# Altium schematic symbol library Rollmech_Altium.SchLib: 64 symbols
Pins are listed as number, name and electrical type; pins without a type are passive.

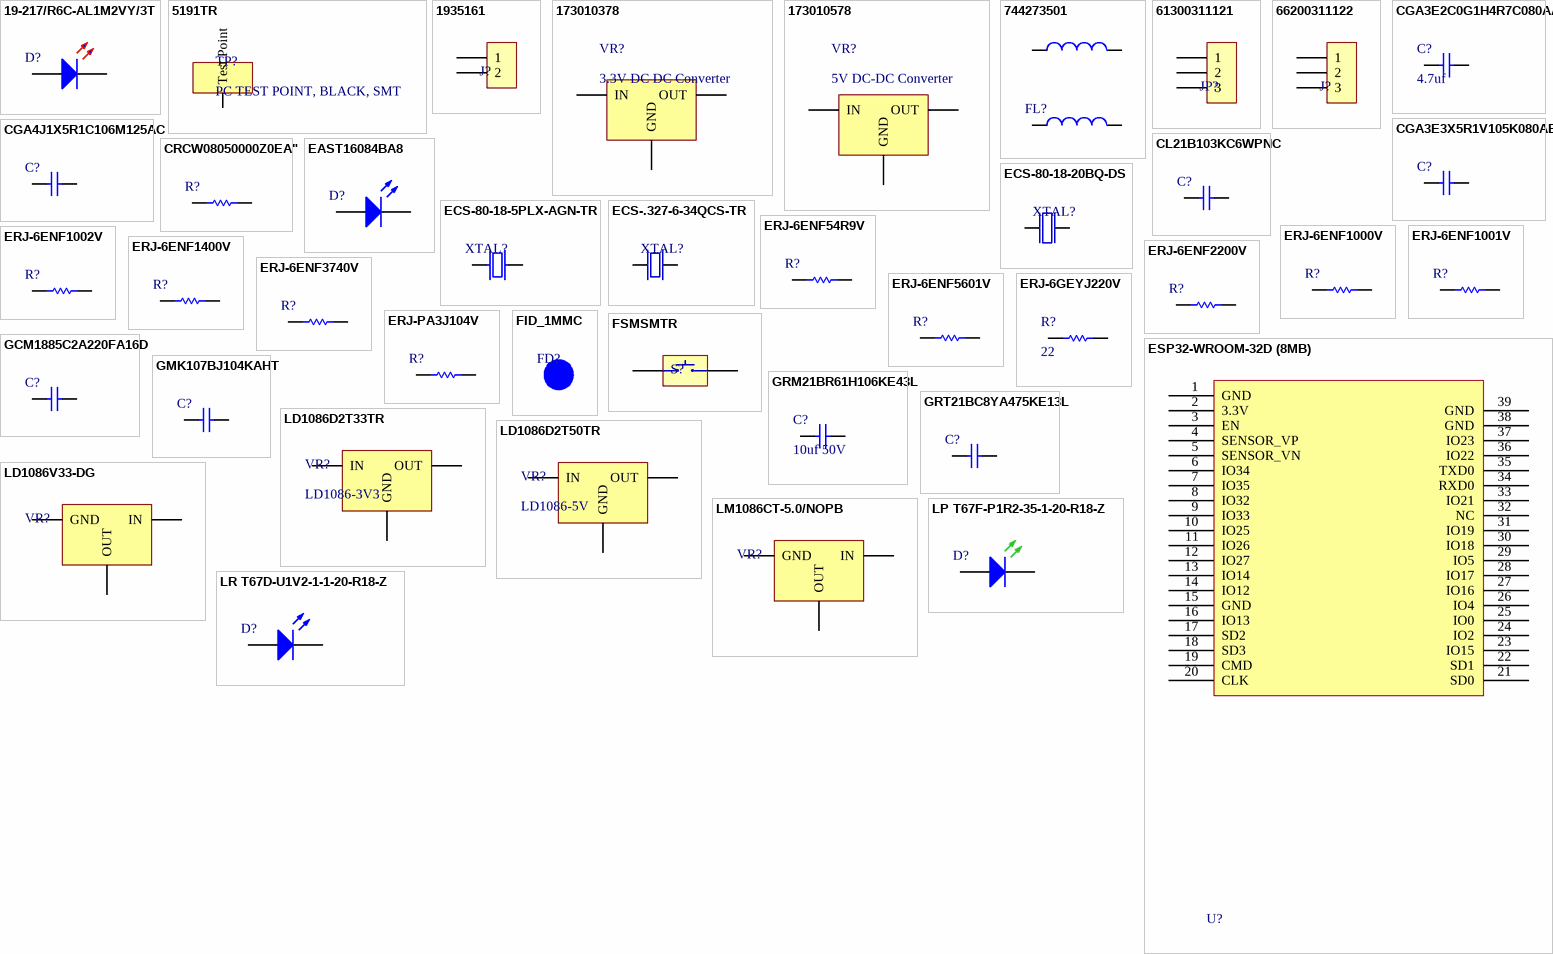
[diagram p0: symbols 19-217/R6C-AL1M2VY/3T to LR T67D-U1V2-1-1-20-R18-Z]

## 19-217/R6C-AL1M2VY/3T
designator D?, comment LED RED  (value not drawn)
LED RED CLEAR 2SMD; Manufacturer 1: Everlight Electronics Co Ltd; Manufacturer Part Number 1: 19-217/R6C-AL1M2VY/3T; Category: LED Indication - Discrete; Case/Package: 0603 (1608 Metric); Quantity: 1; Supplier 1: Digikey; Supplier Part Number 1: 1080-1585-1-ND; Supplier Stock 1: 8508; Supplier Unit Price 1: 0.3; Supplier Currency 1: $
footprint RES_0603
pins: 1 A, 2 K

## 5191TR
designator TP?, comment PC TEST POINT, BLACK, SMT
TEST POINT SMT; Manufacturer 1: Keystone Electronics; Manufacturer Part Number 1: 5191TR; Case/Package: 3x2.5 pad; Category: Test Points; Quantity: 1; Supplier 1: Digikey; Supplier Part Number 1: 36-5191CT-ND; Supplier Currency 1: $; Supplier Unit Price: 0.44; Supplier Stock 1: 7816
footprint 1.2x2.5 Pad
pins: 1 Test Point

## 1935161
designator J?, comment TERM BLK 1X2  (value not drawn)
TERM BLK 1X2 SIDE ENTRY 5MM TH; Manufacturer 1: Phoenix Contact; Manufacturer Part Number 1: 1935161; Category: Terminal Blocks - Wire to Board; Case/Package: 2POS_5mmPitch; Quantity: 1; Supplier 1: Digikey; Supplier Part Number 1: 277-1667-ND; Supplier Order Qty 1: 1; Supplier Stock 1: 115293; Supplier Unit Price 1: 0,43; Supplier Currency 1: $
footprint CONN_MALE_1X2_5MM
pins: 1, 2

## 173010378
designator VR?, comment 3.3V DC DC Converter
DC DC CONVERTER 3.3V 3W; Manufacturer 1: Würth Elektronik; Manufacturer Part Number 1: 173010378; Category: DC DC Converters; Case/Package: 3-SIP Module; Quantity: 1; Supplier 1: Digikey; Supplier Currency 1: $; Supplier Part Number 1: 732-9638-5-ND; Supplier Stock 1: 60; Supplier Unit Price 1: 6.84
footprint 3-SIP
pins: 1 IN, 2 GND, 3 OUT

## 173010578
designator VR?, comment 5V DC-DC Converter
DC DC CONVERTER 5V 5W; Manufacturer 1: Würth Elektronik; Manufacturer Part Number 1: 173010578; Category: DC DC Converters; Case/Package: 3-SIP Module; Quantity: 1; Supplier 1: Digikey; Supplier Currency 1: $; Supplier Part Number 1: 732-9639-5-ND; Supplier Stock 1: 81; Supplier Unit Price 1: 6.84
footprint 3-SIP
pins: 1 IN, 2 GND, 3 OUT

## 744273501
designator FL?, comment Filter  (value not drawn)
CMC 5UH 5A 2LN 500 OHM SMD; Manufacturer 1: Wurth Electronics Inc.; Manufacturer Part Number 1: 744273501; Category: Common Mode Chokes; Case/Package: Horizontal, 4 PC Pad; Quantity: 1; Supplier 1: Digikey; Supplier Part Number 1: 732-2214-1-ND; Supplier Order Qty 1: 1; Supplier Stock 1: 26497; Supplier Unit Price 1: 3,37; Supplier Currency 1: $
footprint Filter_744273501
pins: 1, 2, 3, 4

## 61300311121
designator JP?, comment HDR_1X3_2.54  (value not drawn)
HDR MALE 1X3 2.54MM; Manufacturer 1: Wurth Electronics Inc.; Manufacturer Part Number 1: 61300311121; Category: Rectangular Connectors - Headers, Male Pins; Case/Package: 3POS pitch 2.54mm; Quantity: 1; Supplier 1: Digikey; Supplier Part Number 1: 732-5316-ND; Supplier Order Qty 1: 1; Supplier Stock 1: 109116; Supplier Unit Price 1: 0,13; Supplier Currency 1: $
footprint HDR_MALE_1X3_2.54MM
pins: 1, 2, 3

## 66200311122
designator J?, comment CONN 1X3 3MM  (value not drawn)
CONN MALE 1X3 3MM; Manufacturer 1: Wurth Electronics Inc.; Manufacturer Part Number 1: 66200311122; Category: Rectangular Connectors - Headers, Male Pins; Case/Package: 3POS_3mmPitch; Quantity: 1; Supplier 1: Digikey; Supplier Part Number 1: 732-4709-5-ND; Supplier Order Qty 1: 1; Supplier Stock 1: 56; Supplier Unit Price 1: 0,34; Supplier Currency 1: $
footprint CONN_MALE_1X3_3MM
pins: 1, 2, 3

## CGA3E2C0G1H4R7C080AA
designator C?, comment 4.7uf
CAP CER 4.7PF 50V C0G 0603; Manufacturer 1: TDK Corporation; Manufacturer Part Number 1: CGA3E2C0G1H4R7C080AA; Category: Ceramic Capacitors; Case/Package: 0603 (1608 Metric); Quantity: 1; Supplier 1: Digikey; Supplier Part Number 1: 445-5621-1-ND; Supplier Stock 1: 68332; Supplier Unit Price 1: 0.19; Supplier Currency 1: $
footprint CAP_CER_0603
pins: 1, 2

## CGA3E3X5R1V105K080AB
designator C?, comment 1uF 35V  (value not drawn)
CAP CER 1UF 35V; Manufacturer 1: TDK Corporation; Manufacture Part Number 1: CGA3E3X5R1V105K080AB; Category: Ceramic Capacitors; Case/Package: 0603 (1608 Metric); Quantity: 1; Supplier 1: Digikey; Supplier Part Number 1: 445-12484-1-ND; Supplier Order Qty 1: 1; Supplier Stock 1: 11910; Supplier Unit Price 1: 0,25; Supplier Currency 1: $
footprint CAP_CER_0603
pins: 1, 2

## CGA4J1X5R1C106M125AC
designator C?, comment 10uF 16V  (value not drawn)
CAP CER 10UF 16V; Manufacturer 1: TDK Corporation; Manufacturer Part Number 1: CGA4J1X5R1C106M125AC; Category: Ceramic Capacitors; Case/Package: 0805 (2012 Metric); Quantity: 1; Supplier 1: Digikey; Supplier Part Number 1: 445-12654-1-ND; Supplier Order Qty 1: 1; Supplier Stock 1: 39905; Supplier Unit Price 1: 0,5; Supplier Currency 1: $
footprint CAP_CER_0805
pins: 1, 2

## CL21B103KC6WPNC
designator C?, comment 10nF 100V  (value not drawn)
CAP CER 10nF 100V; Manufacturer 1: Samsung Electro-Mechanics; Manufacturer Part Number 1: CL21B103KC6WPNC; Category: Ceramic Capacitors; Case/Package: 0805 (2012 Metric); Quantity: 1; Supplier 1: Digikey; Supplier Part Number 1: 1276-6845-1-ND; Supplier Order Qty 1: 1; Supplier Stock 1: 38701; Supplier Unit Price 1: 0,1; Supplier Currency 1: $
footprint CAP_CER_0805
pins: 1, 2

## CRCW08050000Z0EA"
designator R?, comment 0 1/8W  (value not drawn)
RES SMD 0 OHM JUMPER 1/8W 0805; Manufacturer 1: Vishay Dale; Manufacturer Part Number 1: CRCW08050000Z0EA; Case/Package: 0805 (2012 Metric); Category: Chip Resistor - Surface Mount; Quantity: 1; Supplier 1: Digikey; Supplier Part Number 1: 541-0.0ACT-ND; Supplier Stock 1: 746599; Supplier Unit Price 1: 0.1; Supplier Currency 1: $
footprint RES_0805
pins: 1, 2

## EAST16084BA8
designator D?, comment Blue Led  (value not drawn)
LED BLUE CLEAR 2SMD; Manufacturer 1: Everlight Electronics Co Ltd; Manufacturer Part Number 1: EAST16084BA8; Category: LED Indication - Discrete; Case/Package: 0603 (1608 Metric); Quantity: 1; Supplier 1: Digikey; Supplier Part Number 1: 1080-1562-1-ND; Supplier Stock 1: 11914; Supplier Unit Price 1: 0.30; Supplier Currency 1: $
footprint RES_0603
pins: 1 A, 2 K

## ECS-80-18-5PLX-AGN-TR
designator XTAL?, comment 8Mhz  (value not drawn)
CRYSTAL 8.000MHZ 18PF SMT; Manufacturer 1: ECS Inc.; Manufacturer Part Number 1: ECS-80-18-5PLX-AGN-TR; Category: Crystals; Case/Package: HC-49/US; Quantity: 1; Supplier 1: Digikey; Supplier Part Number 1: XC2782CT-ND; Supplier Stock 1: 1600; Supplier Unit Price 1: 0.37; Supplier Currency 1: $
footprint HC-49/US
pins: 1, 2

## ECS-80-18-20BQ-DS
designator XTAL?, comment 8.000MHZ  (value not drawn)
CRYSTAL 8.000MHZ; Manufacturer 1: ECS Inc.; Manufacturer Part Number 1: ECS-80-18-20BQ-DS; Category: Crystals; Case/Package: 4-SMD, No Lead; Quantity: 1; Supplier 1: Digikey; Supplier Part Number 1: XC2015CT-ND; Supplier Order Qty 1: 1; Supplier Stock 1: 15309; Supplier Unit Price 1: 1,26; Supplier Currency 1: $
footprint XTAL_4SMD
pins: 1, 3

## ECS-.327-6-34QCS-TR
designator XTAL?, comment 32.768KHZ  (value not drawn)
CRYSTAL 32.768KHZ; Manufacturer 1: ECS Inc.; Manufacturer Part Number 1: ECS-.327-6-34QCS-TR; Category: Crystals; Case/Package: 2-SMD, No Lead; Quantity: 1; Supplier 1: Digikey; Supplier Part Number 1: XC2162CT-ND; Supplier Order Qty 1: 1; Supplier Stock 1: 1833; Supplier Unit Price 1: 0,83; Supplier Currency 1: $
footprint XTAL_2SMD
pins: 1, 2

## ERJ-6ENF54R9V
designator R?, comment 54.9 1/8W  (value not drawn)
RES SMD 54.9 OHM; Manufacturer 1: Panasonic Electronic Components; Manufacturer Part Number 1: ERJ-6ENF54R9V; Category: Chip Resistor - Surface Mount; Case/Package: 0805 (2012 Metric); Quantity: 1; Supplier 1: Digikey; Supplier Part Number 1: P54.9CCT-ND; Supplier Order Qty 1: 1; Supplier Stock 1: 43715; Supplier Unit Price 1: 0,1; Supplier Currency 1: $
footprint RES_0805
pins: 1, 2

## ERJ-6ENF1000V
designator R?, comment 100 1/8W  (value not drawn)
RES SMD 100 OHM; Manufacturer 1: Panasonic Electronic Components; Manufacturer Part Number 1: ERJ-6ENF1000V; Category: Chip Resistor - Surface Mount; Case/Package: 0805 (2012 Metric); Quantity: 1; Supplier 1: Digikey; Supplier Part Number 1: P100CCT-ND; Supplier Order Qty 1: 1; Supplier Stock 1: 728141; Supplier Unit Price 1: 0,1; Supplier Currency 1: $
footprint RES_0805
pins: 1, 2

## ERJ-6ENF1001V
designator R?, comment 1K 1/8W  (value not drawn)
RES SMD 1K OHM; Manufacturer 1: Panasonic Electronic Components; Manufacturer Part Number 1: ERJ-6ENF1001V; Category: Chip Resistor - Surface Mount; Case/Package: 0805 (2012 Metric); Quantity: 1; Supplier 1: Digikey; Supplier Part Number 1: P1.00KCCT-ND; Supplier Order Qty 1: 1; Supplier Stock 1: 1361018; Supplier Unit Price 1: 0,1; Supplier Currency 1: $
footprint RES_0805
pins: 1, 2

## ERJ-6ENF1002V
designator R?, comment 10K 1/8W  (value not drawn)
RES SMD 10K OHM 1% 1/8W 0805; Manufacturer 1: Panasonic Electronic Components; Manufacturer Part Number 1: ERJ-6ENF1002V; Category: Chip Resistor - Surface Mount; Case/Package: 0805 (2012 Metric); Quantity: 1; Supplier 1: Digikey; Supplier Part Number 1: P10.0KCCT-ND; Supplier Order Qty 1: 1; Supplier Stock 1: 2515107; Supplier Unit Price 1: 0,1; Supplier Currency 1: $
footprint RES_0805
pins: 1, 2

## ERJ-6ENF1400V
designator R?, comment 140 1/8W  (value not drawn)
RES SMD 140 OHM 1% 1/8W 0805; Manufacturer 1: Panasonic Electronic Components; Manufacturer Part Number 1: ERJ-6ENF1400V; Category: Chip Resistor - Surface Mount; Case/Package: 0805 (2012 Metric); Quantity: 1; Supplier 1: Digikey; Supplier Part Number 1: P140CCT-ND; Supplier Order Qty 1: 1; Supplier Stock 1: 76818; Supplier Unit Price 1: 0,1; Supplier Currency 1: $
footprint RES_0805
pins: 1, 2

## ERJ-6ENF2200V
designator R?, comment 220 ohm 1/8W  (value not drawn)
RES SMD 220 OHM 1% 1/8W 0805; Manufacturer 1: Panasonic Electronic Components; Manufacturer Part Number 1: ERJ-6ENF2200V; Category: Chip Resistor - Surface Mount; Case/Package: 0805 (2012 Metric); Quantity: 1; Supplier 1: Digikey; Supplier Part Number 1: P220CCT-ND; Supplier Stock 1: 90481; Supplier Unit Price 1: 0,1; Supplier Currency 1: $
footprint RES_0805
pins: 1, 2

## ERJ-6ENF3740V
designator R?, comment 374 1/8W  (value not drawn)
RES SMD 374 OHM 1% 1/8W 0805; Manufacturer 1: Panasonic Electronic Components; Manufacturer Part Number 1: ERJ-6ENF3740V; Category: Chip Resistor - Surface Mount; Case/Package: 0805 (2012 Metric); Quantity: 1; Supplier 1: Digikey; Supplier Order Qty 1: 1; Supplier Stock 1: 100272; Supplier Unit Price 1: 0,1; Supplier Currency 1: $; Supplier Part Number 1: P374CCT-ND
footprint RES_0805
pins: 1, 2

## ERJ-6ENF5601V
designator R?, comment 5.6k 1/8W  (value not drawn)
RES SMD 5.6K OHM 1% 1/8W 0805; Manufacturer 1: Panasonic Electronic Components; Manufacturer Part Number 1: ERJ-6ENF5601V; Category: Chip Resistor - Surface Mount; Case/Package: 0805 (2012 Metric); Quantity: 1; Supplier 1: Digikey; Supplier Part Number 1: P5.60KCCT-ND; Supplier Order Qty 1: 1; Supplier Stock 1: 71341; Supplier Unit Price 1: 0,1; Supplier Currency 1: $
footprint RES_0805
pins: 1, 2

## ERJ-6GEYJ220V
designator R?, comment 22
RES SMD 22 OHM 5% 1/8W 0805; Manufacturer 1: Panasonic Electronic Components; Manufacturer Part Number 1: ERJ-6GEYJ220V; Category: Chip Resistor - Surface Mount; Case/Package: 0805; Quantity: 1; Supplier 1: Digikey; Supplier Part Number 1: P22ACT-ND; Supplier Stock 1: 247578; Supplier Unit Price 1: 0.1; Supplier Currency 1: $
footprint RES_0805
pins: 1, 2

## ERJ-PA3J104V
designator R?, comment 100K 1/4W  (value not drawn)
RES SMD 100K 5% 1/4W 0603; Manufacturer 1: Panasonic Electronic Components; Manufacturer Part Number 1: ERJ-PA3J104V; Category: Chip Resistor - Surface Mount; Case/Package: 0603 (1608 Metric); Quantity: 1; Supplier 1: Digikey; Supplier Part Number 1: P100KBZCT-ND; Supplier Order Qty 1: 1; Supplier Stock 1: 11465; Supplier Unit Price 1: 0,11; Supplier Currency 1: $
footprint RES_0603
pins: 1, 2

## ESP32-WROOM-32D (8MB)
designator U?  (value not drawn)
ESP32 WIFI MODULE 64MBITS SPI FLASH; Manufacturer 1: Espressif Systems; Category: RF Transceiver Modules; Manufacturer Part Number 1: ESP32-WROOM-32D (8MB); Case/Package: SMD; Quantity: 1; Supplier 1: Digikey; Supplier Part Number 1: 1904-1024-1-ND; Supplier Stock 1: 1298; Supplier Unit Price 1: 4.2; Supplier Currency 1: $
footprint ESP32-WROOM-32D
pins: 1 GND, 2 3.3V, 3 EN, 4 SENSOR_VP, 5 SENSOR_VN, 6 IO34, 7 IO35, 8 IO32, 9 IO33, 10 IO25, 11 IO26, 12 IO27, 13 IO14, 14 IO12, 15 GND, 16 IO13, 17 SD2, 18 SD3, 19 CMD, 20 CLK, 21 SD0, 22 SD1, 23 IO15, 24 IO2, 25 IO0, 26 IO4, 27 IO16, 28 IO17, 29 IO5, 30 IO18, 31 IO19, 32 NC, 33 IO21, 34 RXD0, 35 TXD0, 36 IO22, 37 IO23, 38 GND, 39 GND

## FID_1MMC
designator FD?  (value not drawn)  (no BOM)
Fiducial 40 mil diameter , 120 mil mask
footprint FID_40x120D

## FSMSMTR
designator S?, comment TAC SW  (value not drawn)
SWITCH TACTILE SPST-NO 0.05A 24V; Manufacturer 1: TE Connectivity ALCOSWITCH Switches; Manufacturer Part Number 1: FSMSMTR; Category: Tactile Switches; Case/Package: *; Quantity: 1; Supplier 1: Digikey; Supplier Part Number 1: 450-1758-1-ND; Supplier Order Qty 1: 1; Supplier Stock 1: 28743; Supplier Unit Price 1: 0,47; Supplier Currency 1: $
footprint TAC-SW
pins: 1, 2

## GCM1885C2A220FA16D
designator C?, comment 22pF 100V  (value not drawn)
CAP CER 22PF 100V C0G/NP0 0603; Manufacturer 1: Murata Electronics North America; Manufacturer Part Number 1: GCM1885C2A220FA16D; Category: Ceramic Capacitors; Case/Package: 0603 (1608 Metric); Quantity: 1; Supplier 1: Digikey; Supplier Part Number 1: 490-16413-1-ND; Supplier Order Qty 1: 1; Supplier Stock 1: 22604; Supplier Unit Price 1: 0,22; Supplier Currency 1: $
footprint CAP_CER_0603
pins: 1, 2

## GMK107BJ104KAHT
designator C?, comment 100nF 35V  (value not drawn)
CAP CER 100nf 35V X5R 0603; Manufacturer 1: Taiyo Yuden; Manufacturer Part Number 1: GMK107BJ104KAHT; Category: Ceramic Capacitors; Case/Package: 0603 (1608 Metric); Quantity: 1; Supplier 1: Digikey; Supplier Part Number 1: 587-3357-1-ND; Supplier Order Qty 1: 1; Supplier Stock 1: 97932; Supplier Unit Price 1: 0,14; Supplier Currency 1: $
footprint CAP_CER_0603
pins: 1, 2

## GRM21BR61H106KE43L
designator C?, comment 10uf 50V
CAP CER 10uF 50VDC; Manufacturer 1: Murata Electronics; Manufacturer Part Number 1: GRM21BR61H106KE43L; Category: Ceramic Capacitors; Case/Package: 0805 (2012 Metric); Quantity: 1; Supplier 1: Digikey; Supplier Part Number 1: 490-18663-1-ND; Supplier Stock 1: 3697; Supplier Unit Price 1: 0.49; Supplier Currency 1: $
footprint CAP_CER_0805
pins: 1, 2

## GRT21BC8YA475KE13L
designator C?, comment 4.7uF 35V  (value not drawn)
CAP CER 100nf 35V X5R 0603; Manufacturer 1: Murata Electronics North America; Manufacturer Part Number 1: GRT21BC8YA475KE13L; Category: Ceramic Capacitors; Case/Package: 0805 (2012 Metric); Quantity: 1; Supplier 1: Digikey; Supplier Part Number 1: 490-12361-1-ND; Supplier Order Qty 1: 1; Supplier Stock 1: 5076; Supplier Unit Price 1: 0,45; Supplier Currency 1: $
footprint CAP_CER_0805
pins: 1, 2

## LD1086D2T33TR
designator VR?, comment LD1086-3V3
IC REG LINEAR 3.3V 1.5A D2PAK; Manufacturer 1: STMicroelectronics; Manufacturer Part Number 1: LD1086D2T33TR; Category: PMIC - Voltage Regulators - Linear; Case/Package: TO-263-3, D²Pak (2 Leads + Tab), TO-263AB; Quantity: 1; Supplier 1: Digikey; Supplier Part Number 1: 497-1224-1-ND; Supplier Stock 1: 3408; Supplier Unit Price 1: 0.92; Supplier Currency 1: $
footprint D2PAK
pins: 1 GND, 2 OUT, 3 IN

## LD1086D2T50TR
designator VR?, comment LD1086-5V
IC REG LINEAR 5V 1.5A D2PAK; Manufacturer 1: STMicroelectronics; Manufacturer Part Number 1: LD1086D2T50TR; Category: PMIC - Voltage Regulators - Linear; Case/Package: TO-263-3, D²Pak (2 Leads + Tab), TO-263AB; Quantity: 1; Supplier 1: Digikey; Supplier Part Number 1: 497-1225-1-ND; Supplier Stock 1: 3464; Supplier Unit Price 1: 0.92; Supplier Currency 1: $
footprint D2PAK
pins: 1 GND, 2 OUT, 3 IN

## LD1086V33-DG
designator VR?, comment LD1086V33  (value not drawn)
IC REG LINEAR 3.3V 1.5A TO220AB; Manufacturer 1: STMicroelectronics; Manufacturer Part Number 1: LD1086V33-DG; Category: PMIC - Voltage Regulators - Linear; Case/Package: TO-220-3; Quantity: 1; Supplier 1: Digikey; Supplier Stock 1: 557; Supplier Unit Price 1: 1.55; Supplier Currency 1: $; Supplier Part Number 1: 497-17820-ND
footprint TO-220
pins: 1 GND, 2 OUT, 3 IN

## LM1086CT-5.0/NOPB
designator VR?, comment LM1086-5  (value not drawn)
IC REG LINEAR 5V 1.5A TO220-3; Manufacturer 1: Texas Instruments; Manufacturer Part Number 1: LM1086CT-5.0/NOPB; Category: PMIC - Voltage Regulators - Linear; Case/Package: TO-220-3; Quantity: 1; Supplier 1: Digikey; Supplier Part Number 1: LM1086CT-5.0/NOPB-ND; Supplier Stock 1: 1733; Supplier Unit Price 1: 1.86; Supplier Currency 1: $
footprint TO-220
pins: 1 GND, 2 OUT, 3 IN

## LP T67F-P1R2-35-1-20-R18-Z
designator D?, comment LED GREEN  (value not drawn)
LED TOPLED GREEN 562NM 2PLCC; Manufacturer 1: OSRAM Opto Semiconductors Inc.; Manufacturer Part Number 1: LP T67F-P1R2-35-1-20-R18-Z; Category: LED Lighting - Color; Case/Package: 2-PLCC; Quantity: 1; Supplier 1: Digikey; Supplier Part Number 1: 475-3760-1-ND; Supplier Order Qty 1: 1; Supplier Stock 1: 1903; Supplier Unit Price 1: 0,67; Supplier Currency 1: $
footprint PLCC2
pins: 1 A, 2 K

## LR T67D-U1V2-1-1-20-R18-Z
designator D?, comment LED RED  (value not drawn)
LED TOPLED RED 626NM 2PLCC; Manufacturer 1: OSRAM Opto Semiconductors Inc.; Manufacturer Part Number 1: LR T67D-U1V2-1-1-20-R18-Z; Category: LED Lighting - Color; Case/Package: 2-SMD, J-Lead; Quantity: 1; Supplier 1: Digikey; Supplier Part Number 1: 475-3762-1-ND; Supplier Order Qty 1: 1; Supplier Stock 1: 1905; Supplier Unit Price 1: 0,47; Supplier Currency 1: $
footprint PLCC2
pins: 1 A, 2 K

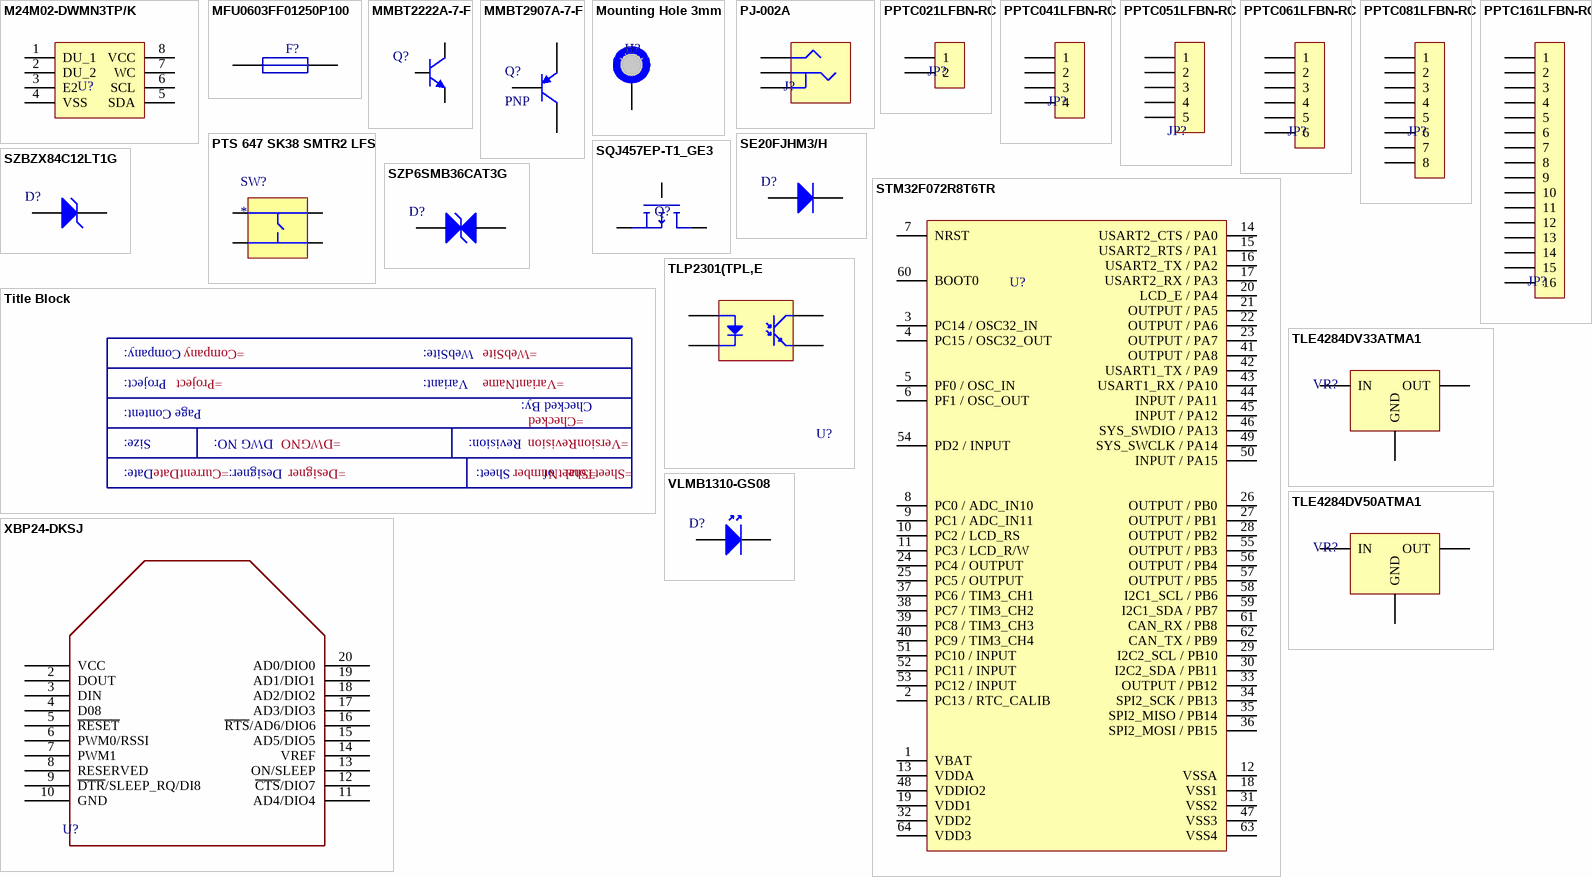
[diagram p1: symbols M24M02-DWMN3TP/K to XBP24-DKSJ]

## M24M02-DWMN3TP/K
designator U?, comment 2M EEPROM  (value not drawn)
IC EEPROM 2M I2C 1MHZ 8SO; Manufacturer 1: STMicroelectronics; Manufacturer Part Number 1: M24M02-DWMN3TP/K; Category: Memory; Case/Package: 8-SOIC (0.154", 3.90mm Width); Quantity: 1; Supplier 1: Digikey; Supplier Part Number 1: 497-16238-1-ND; Supplier Order Qty 1: 1; Supplier Stock 1: 6027; Supplier Unit Price 1: 3,28; Supplier Currency 1: $
footprint SOIC-8
pins: 1 DU_1, 2 DU_2, 3 E2, 4 VSS, 5 SDA, 6 SCL, 7 WC, 8 VCC

## MFU0603FF01250P100
designator F?, comment 1.25A 32VDC  (value not drawn)
FUSE 1.25A 32VDC 0603; Manufacturer 1: Vishay Beyschlag; Manufacturer Part Number 1: MFU0603FF01250P100; Category: Fuses; Case/Package: 0603 (1608 Metric); Quantity: 1; Supplier 1: Digikey; Supplier Part Number 1: MFU06031.25CT-ND; Supplier Order Qty 1: 1; Supplier Stock 1: 24954; Supplier Unit Price 1: 0,31; Supplier Currency 1: $
footprint FUSE_0603
pins: 1, 2

## MMBT2222A-7-F
designator Q?, comment NPN 0.6A  (value not drawn)
TRANS NPN 40V 0.6A SMD SOT23-3; Manufacturer 1: Diodes Incorporated; Manufacturer Part Number 1: MMBT2222A-7-F; Category: Transistors - Bipolar (BJT) - Single; Case/Package: SOT-23-3; Quantity: 1; Supplier 1: Digikey; Supplier Part Number 1: MMBT2222A-FDICT-ND; Supplier Order Qty 1: 1; Supplier Stock 1: 1957039; Supplier Unit Price 1: 0,14; Supplier Currency 1: $
footprint SOT-23 (TO-236)
pins: 1 C, 2 B, 3 E

## MMBT2907A-7-F
designator Q?, comment PNP
TRANS PNP 60V 0.6A SOT23-3; Manufacturer 1: Diodes Incorporated; Manufacturer Part Number 1: MMBT2907A-7-F; Category: Transistors - Bipolar (BJT) - Single; Case/Package: SOT-23-3; Quantity: 1; Supplier 1: Digikey; Supplier Part Number 1: MMBT2907A-FDICT-ND; Supplier Stock 1: 376417; Supplier Unit Price 1: 0.14; Supplier Currency 1: $
footprint SOT-23 (TO-236)
pins: 1 C, 2 B, 3 E

## Mounting Hole 3mm
designator H?, comment MH_3mm  (value not drawn)  (no BOM)
Mounting Hole 3 mm; Category: M3 3mm çap vida
footprint MH_3MM (Mounting Hole 3mm)
pins: 1

## PJ-002A
designator J?, comment CONN 2x5.5 Jack  (value not drawn)
CONN PWR JACK 2X5.5MM SOLDER; Manufacturer 1: CUI Inc.; Manufacturer Part Number 1: PJ-002A; Category: Barrel - Power Connectors; Case/Package: Jack; Quantity: 1; Supplier 1: Digikey; Supplier Part Number 1: CP-002A-ND; Supplier Order Qty 1: 1; Supplier Stock 1: 115179; Supplier Unit Price 1: 0,6; Supplier Currency 1: $
footprint POWER_JACK
pins: 1, 2, 3

## PPTC021LFBN-RC
designator JP?, comment HDR 1X2 2.54MM  (value not drawn)
HDR FEMALE 1X2 2.54MM; Manufacturer 1: Sullins Connector Solutions; Manufacturer Part Number 1: PPTC021LFBN-RC; Category: Rectangular Connectors - Headers, Receptacles, Female Sockets; Case/Package: 2POS_2.54mmPitch; Quantity: 1; Supplier 1: Digikey; Supplier Part Number 1: S7000-ND; Supplier Order Qty 1: 1; Supplier Stock 1: 46723; Supplier Unit Price 1: 0,32; Supplier Currency 1: $
footprint HDR_FEMALE_1X2_2.54MM
pins: 1, 2

## PPTC041LFBN-RC
designator JP?, comment HDR FEMALE 1X4 2.54MM  (value not drawn)
Manufacturer 1: Sullins Connector Solutions; Manufacturer Part Number 1: PPTC041LFBN-RC; Category: Rectangular Connectors - Headers, Receptacles, Female Sockets; Case/Package: 4POS_2.54mmPitch; Quantity: 1; Supplier 1: Digikey; Supplier Part Number 1: S7002-ND; Supplier Order Qty 1: 1; Supplier Stock 1: 30769; Supplier Unit Price 1: 0,45; Supplier Currency 1: $
footprint HDR_FEMALE_1X4_2.54MM
pins: 1, 2, 3, 4

## PPTC051LFBN-RC
designator JP?, comment HDR FEMALE 1X5 2.54MM  (value not drawn)
Manufacturer 1: Sullins Connector Solutions; Manufacturer Part Number 1: PPTC051LFBN-RC; Category: Rectangular Connectors - Headers, Receptacles, Female Sockets; Case/Package: 5Pos_2.5mm_Pitch; Quantity: 1; Supplier 1: Digikey; Supplier Part Number 1: S6103-ND; Supplier Order Qty 1: 1; Supplier Stock 1: 28189; Supplier Unit Price  1: 0,47; Supplier Currency 1: $
footprint HDR_FEMALE_1X5_2.54MM
pins: 1, 2, 3, 4, 5

## PPTC061LFBN-RC
designator JP?, comment HDR FEMALE 1X6 2.54MM  (value not drawn)
Manufacturer 1: Sullins Connector Solutions; Manufacturer Part Number 1: PPTC061LFBN-RC; Category: Rectangular Connectors - Headers, Receptacles, Female Sockets; Case/Package: 6Pos_2.5mm_Pitch; Quantity: 1; Supplier 1: Digikey; Supplier Part Number 1: S7004-ND; Supplier Order Qty 1: 1; Supplier Stock 1: 18444; Supplier Unit Price  1: 0,52; Supplier Currency 1: $
footprint HDR_FEMALE_1X6_2.54MM
pins: 1, 2, 3, 4, 5, 6

## PPTC081LFBN-RC
designator JP?, comment HDR FEMALE 1X8 2.54MM  (value not drawn)
Manufacturer 1: Sullins Connector Solutions; Manufacturer Part Number 1: PPTC081LFBN-RC; Category: Rectangular Connectors - Headers, Receptacles, Female Sockets; Case/Package: 8Pos_2.5mm_Pitch; Quantity: 1; Supplier 1: Digikey; Supplier Part Number 1: S7006-ND; Supplier Order Qty 1: 1; Supplier Stock 1: 38135; Supplier Unit Price  1: 0,65; Supplier Currency 1: $
footprint HDR_FEMALE_1X8_2.54MM
pins: 1, 2, 3, 4, 5, 6, 7, 8

## PPTC161LFBN-RC
designator JP?, comment HDR FEMALE 1x16 2.54MM  (value not drawn)
Manufacturer 1: Sullins Connector Solutions; Manufacturer Part Number 1: PPTC161LFBN-RC; Category: Rectangular Connectors - Headers, Receptacles, Female Sockets; Case/Package: 16Pos_2.5mm_Pitch; Quantity: 1; Supplier 1: Digikey; Supplier Part Number 1: S7014-ND; Supplier Order Qty 1: 1; Supplier Stock 1: 9562; Supplier Unit Price  1: 0,98; Supplier Currency 1: $
footprint HDR_FEMALE_1x16_2.54MM
pins: 1, 2, 3, 4, 5, 6, 7, 8, 9, 10, 11, 12, 13, 14, 15, 16

## PTS 647 SK38 SMTR2 LFS
designator SW?
SWITCH TACTILE 4.5 X 4.5; Manufacturer 1: C&K; Manufacturer Part Number 1: PTS 647 SK38 SMTR2 LFS; Category: Tactile Switches; Case/Package: 4.50mm x 4.50mm; Quantity: 1; Supplier 1: Digikey; Supplier Part Number 1: PTS647SK38SMTR2LFSCT-ND; Supplier Stock 1: 73195; Supplier Unit Price 1: 0.14; Supplier Currency 1: $
footprint 4.5x4.5 Tactile switch
pins: 1, 2, 3, 4

## SE20FJHM3/H
designator D?, comment 1.7A 600V  (value not drawn)
DIODE GEN PURP 600V 1.7A; Manufacturer 1: Vishay Semiconductor Diodes Division; Manufacturer Part Number 1: SE20FJHM3/H; Category: Diodes - Rectifiers - Single; Case/Package: DO-219AB; Quantity: 1; Supplier 1: Digikey; Supplier Part Number 1: SE20FJHM3/HGICT-ND; Supplier Order Qty: 1; Supplier Stock 1: 14860; Supplier Unit Price 1: 0,38; Supplier Currency 1: $
footprint DO219AB
pins: 1 A, 2 K

## SQJ457EP-T1_GE3
designator Q?, comment PNP 60V 36A  (value not drawn)
MOSFET P-CH 60V 36A; Manufacturer 1: Vishay Siliconix; Manufacturer Part Number 1: SQJ457EP-T1_GE3; Category: Transistors - FETs, MOSFETs - Single; Case/Package: PowerPAK® SO-8; Quantity: 1; Supplier 1: Digikey; Supplier Part Number 1: SQJ457EP-T1_GE3CT-ND; Supplier Order Qty: 1; Supplier Stock 1: 24220; Supplier Unit Price 1: 0,92; Supplier Currency 1: $
footprint PowerPak-SO8
pins: 1 S, 4 G, 5 D

## STM32F072R8T6TR
designator U?  (value not drawn)
IC MCU 32BIT 64KB FLASH 64LQFP; Manufacturer 1: STMicroelectronics; Category: Embedded - Microcontrollers; Manufacture Part Number 1: STM32F072R8T6TR; Case/Package: 64-LQFP; Quantity: 1; Supplier 1: Digikey; Supplier Part Number 1: 497-17362-1-ND; Supplier Order Qty 1: 1; Supplier Stock 1: 441; Supplier Unit Price 1: 3,84; Supplier Currency 1: $
footprint LQFP64
pins: 1 VBAT, 2 PC13 / RTC_CALIB, 3 PC14 / OSC32_IN, 4 PC15 / OSC32_OUT, 5 PF0 / OSC_IN, 6 PF1 / OSC_OUT, 7 NRST, 8 PC0 / ADC_IN10, 9 PC1 / ADC_IN11, 10 PC2 / LCD_RS, 11 PC3 / LCD_R/W, 12 VSSA, 13 VDDA, 14 USART2_CTS / PA0, 15 USART2_RTS / PA1, 16 USART2_TX / PA2, 17 USART2_RX / PA3, 18 VSS1, 19 VDD1, 20 LCD_E / PA4, 21 OUTPUT / PA5, 22 OUTPUT / PA6, 23 OUTPUT / PA7, 24 PC4 / OUTPUT, 25 PC5 / OUTPUT, 26 OUTPUT / PB0, 27 OUTPUT / PB1, 28 OUTPUT / PB2, 29 I2C2_SCL / PB10, 30 I2C2_SDA / PB11, 31 VSS2, 32 VDD2, 33 OUTPUT / PB12, 34 SPI2_SCK / PB13, 35 SPI2_MISO / PB14, 36 SPI2_MOSI / PB15, 37 PC6 / TIM3_CH1, 38 PC7 / TIM3_CH2, 39 PC8 / TIM3_CH3, 40 PC9 / TIM3_CH4, 41 OUTPUT / PA8, 42 USART1_TX / PA9, 43 USART1_RX / PA10, 44 INPUT / PA11, 45 INPUT / PA12, 46 SYS_SWDIO / PA13, 47 VSS3, 48 VDDIO2, 49 SYS_SWCLK / PA14, 50 INPUT / PA15, 51 PC10 / INPUT, 52 PC11 / INPUT, 53 PC12 / INPUT, 54 PD2 / INPUT, 55 OUTPUT / PB3, 56 OUTPUT / PB4, 57 OUTPUT / PB5, 58 I2C1_SCL / PB6, 59 I2C1_SDA / PB7, 60 BOOT0, 61 CAN_RX / PB8, 62 CAN_TX / PB9, 63 VSS4, 64 VDD3

## SZBZX84C12LT1G
designator D?, comment 12V 250mW  (value not drawn)
DIODE ZENER 12V 250MW; Manufacturer 1: ON Semiconductor; Manufacturer Part Number 1: SZBZX84C12LT1G; Category: Diodes - Zener - Single; Case/Package: TO-236-3, SC-59, SOT-23-3; Quantity: 1; Supplier 1: Digikey; Supplier Part Number 1: SZBZX84C12LT1GOSCT-ND; Supplier Order Qty 1: 1; Supplier Stock 1: 80986; Supplier Unit Price 1: 0,15; Supplier Currency 1: $
footprint SOT-23 (TO-236)
pins: 2 A, 3 K

## SZP6SMB36CAT3G
designator D?, comment 33V3  (value not drawn)
TVS DIODE 30.8V 49.9V SMB; Manufacturer 1: Littelfuse Inc.; Manufacturer Part Number 1: SZP6SMB36CAT3G; Category: TVS - Diodes; Case/Package: DO-214AA, SMB; Quantity: 1; Supplier 1: Digikey; Supplier Part Number 1: SZP6SMB36CAT3GOSCT-ND; Supplier Order Qty 1: 1; Supplier Stock 1: 24611; Supplier Unit Price 1: 0,93; Supplier Currency 1: $
footprint DO-214AB
pins: 1 A, 2 K

## Title Block
designator *  (value not drawn)  (graphical)
Title Block
text: Company:; WebSite:; Project:; Variant:; Checked By:; Page Content:; Size:; DWG NO:; Revision:; Date:; Designer:; Sheet:; of

## TLE4284DV33ATMA1
designator VR?, comment TLE4284DV33  (value not drawn)
IC REG LINEAR 3.3V 1A; Manufacturer 1: Infineon Technologies; Manufacturer Part Number 1: TLE4284DV33ATMA1; Category: PMIC - Voltage Regulators - Linear; Case/Package: TO-252-3, DPak (2 Leads + Tab), SC-63; Quantity: 1; Supplier 1: Digikey; Supplier Part Number 1: TLE4284DV33ATMA1CT-ND; Supplier Order Qty 1: 1; Supplier Stock 1: 5062; Supplier Unit Price 1: 1,77; Supplier Currency 1: $
footprint PG-TO252-3-11
pins: 1 GND, 2 OUT, 3 IN

## TLE4284DV50ATMA1
designator VR?, comment TLE4284DV50  (value not drawn)
IC REG LINEAR 5V 1A; Manufacturer 1: Infineon Technologies; Manufacturer Part Number 1: TLE4284DV50ATMA1; Category: PMIC - Voltage Regulators - Linear; Case/Package: TO-252-3, DPak (2 Leads + Tab), SC-63; Quantity: 1; Supplier 1: Digikey; Supplier Part Number 1: TLE4284DV50ATMA1CT-ND; Supplier Order Qty 1: 1; Supplier Stock 1: 2563; Supplier Unit Price 1: 1,77; Supplier Currency 1: $
footprint PG-TO252-3-11
pins: 1 GND, 2 OUT, 3 IN

## TLP2301(TPL,E
designator U?, comment NPN 3.75KV  (value not drawn)
OPTOISO 3.75KV TRANS; Manufacturer 1: Toshiba Semiconductor and Storage; Manufacturer Part Number 1: TLP2301(TPL,E; Category: Optoisolators - Transistor, Photovoltaic Output; Case/Package: 6-SOIC (0.179", 4.55mm Width), 4 Leads; Quantity: 1; Supplier 1: Digikey; Supplier Part Number 1: TLP2301(TPLECT-ND; Supplier Order Qty 1: 1; Supplier Stock 1: 19225; Supplier Unit Price 1: 0,73; Supplier Currency 1: $
footprint SOIC-6
pins: 1 A, 3 K, 4 Emit, 6 Coll

## VLMB1310-GS08
designator D?, comment LED BLUE  (value not drawn)
LED BLUE 0603 SMD; Manufacturer 1: Vishay Semiconductor Opto Division; Manufacturer Part Number 1: VLMB1310-GS08; Category: LED Indication - Discrete; Case/Package: 0603 (1608 Metric); Quantity: 1; Supplier 1: Digikey; Supplier Part Number 1: VLMB1310-GS08CT-ND; Supplier Order Qty 1: 1; Supplier Stock 1: 31321; Supplier Unit Price 1: 0,41; Supplier Currency 1: $
footprint LED_0603
pins: 1 A, 2 K

## XBP24-DKSJ
designator U?, comment XBEE PRO S1  (value not drawn)
XBEE PRO SERIES1; Manufacturer 1: Digi International; Manufacturer Part Number 1: XBP24-DKSJ; Category: RF Evaluation and Development Kits, Boards; Case/Package: THT; Quantity: 1; Supplier 1: Digikey; Supplier Part Number 1: 602-1590-ND; Supplier Stock 1: 0; Supplier Unit Price 1: -; Supplier Currency 1: $
footprint XBEE PRO S1
pins: 1 VCC, 2 DOUT, 3 DIN, 4 D08, 5 ~{RESET}, 6 PWM0/RSSI, 7 PWM1, 8 RESERVED, 9 ~{DTR}/SLEEP_RQ/DI8, 10 GND, 11 AD4/DIO4, 12 ~{CTS}/DIO7, 13 ON/SLEEP, 14 VREF, 15 AD5/DIO5, 16 ~{RTS}/AD6/DIO6, 17 AD3/DIO3, 18 AD2/DIO2, 19 AD1/DIO1, 20 AD0/DIO0